# EAGLE library part MAX30100 (library CustomLibrary)
MAX30100
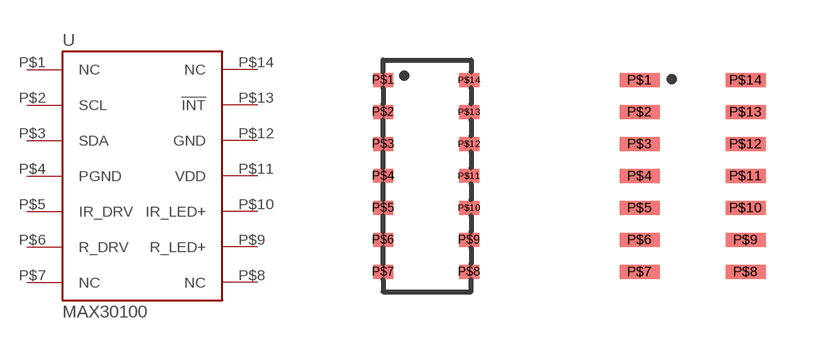
[diagram p0: symbol with the pads of 14OESIP; footprints 14OESIP, MAX_VERSATILE]

Designator prefix U

## MAX30100MAX30100  [14OESIP]
P$1  NC
P$2  SCL
P$3  SDA
P$4  PGND
P$5  IR_DRV
P$6  R_DRV
P$7  NC
P$8  NC
P$9  R_LED+
P$10  IR_LED+
P$11  VDD
P$12  GND
P$13  !INT!
P$14  NC

## MAX30100MAX3010X  [MAX_VERSATILE]
Pads as for 14OESIP

## Footprint 14OESIP (pad centres in mm)
Designed for MAX30100. Package Type: 14OESIP Package Code: F142D5+2 Outline No.: 21-0880 Land Pattern No.: 90-0461
smd 0.5 x 0.35: P$1 0,0; P$2 0,-0.8; P$3 0,-1.6; P$4 0,-2.4; P$5 0,-3.2; P$6 0,-4; P$7 0,-4.8; P$8 2.15,-4.8; P$9 2.15,-4; P$10 2.15,-3.2; P$11 2.15,-2.4; P$12 2.15,-1.6; P$13 2.15,-0.8; P$14 2.15,0

## Footprint MAX_VERSATILE (pad centres in mm)
smd 1 x 0.35: P$1 0,0; P$2 0,-0.8; P$3 0,-1.6; P$4 0,-2.4; P$5 0,-3.2; P$6 0,-4; P$7 0,-4.8; P$8 2.65,-4.8; P$9 2.65,-4; P$10 2.65,-3.2; P$11 2.65,-2.4; P$12 2.65,-1.6; P$13 2.65,-0.8; P$14 2.65,0